# EAGLE library part 750343004 (library WE-OLTI)
WE-OLTI Offline Flyback Transformers Characteristics Nominal input voltage: 85–265 VAC (120–375 VDC) Small size Low leakage inductance Multiple-output options Operating temperature: −40 °C to +125 °C Isolation Voltage: 2 kVAC to 5 kVAC Options for fixed frequency or quasi-resonant mode operation Most products meet reinforced insulation Applications Industrial controls USB chargers Utility metering devices Process controls Factory automation Security systems Garage door opener auxiliary supplies Home appliances Especially designed for several ICs from Texas Instruments Details see: www.we-online.com/en/components/products/WE-OLTI Created by Ella 2025-02-06 2025 (C) Würth Elektronik
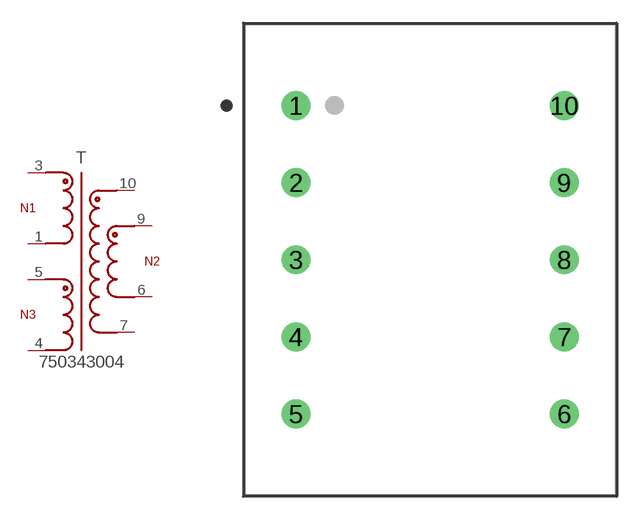
[diagram p25: symbol with the pads of WE-OLTI_ER28/14_L30.5W24H33; footprint WE-OLTI_ER28/14_L30.5W24H33]

Designator prefix T

## 750343004 (AUXILIARY_VOLTAGE_1: 18 V; CATEGORY: Transformers; DATASHEET: https://www.we-online.com/redexpert/spec/750343004?ae; HEIGHT: 33 mm; INDUCTANCE: 160 uH; INPUT_VOLTAGE: 106 - 286 V (AC); INSULATION_TEST_VOLTAGE: 3750 V (AC); LENGTH: 30.5 mm; MANUFACTURER: Würth Elektronik; MOUNT: THT; MPN: 750343004; OUTPUT_CURRENT_1: 3850 mA; OUTPUT_VOLTAGE_1: 24 V; SATURATION_CURRENT: 4.7 A; SIZE: ER28/14; SWITCHING-FREQUENCY: 65kHz; TURNS_RATIO: 4:1:0.78; VALUE: 160 uH; WIDTH: 24 mm)  [WE-OLTI_ER28/14_L30.5W24H33]
1  1  pas
3  3  pas
4  4  pas
5  5  pas
6  6  pas
7  7  pas
9  9  pas
10  10  pas

## Footprint WE-OLTI_ER28/14_L30.5W24H33 (pad centres in mm)
WE-OLTI Offline Flyback Transformers Size: ER28/14,THT,10pins LXWXH=30.5X24X33mm Bobbin: 070-5576
drill 1.25: 1 -8.7,10; 2 -8.7,5; 3 -8.7,0; 4 -8.7,-5; 5 -8.7,-10; 6 8.7,-10; 7 8.7,-5; 8 8.7,0; 9 8.7,5; 10 8.7,10